# Altium footprint library SMD-RCD 0607.PcbLib: 104 footprints (part 7 of 7)
Each footprint in its own frame and in the unit in brackets; x right, y up, seen from the top. Pads: shape width x height; smd on the part's side, far side on the other; paste and mask are expansions set on the pad; w line width, h text height; cw(c..) or ccw(c..) is an arc to the next point about the centre after c.
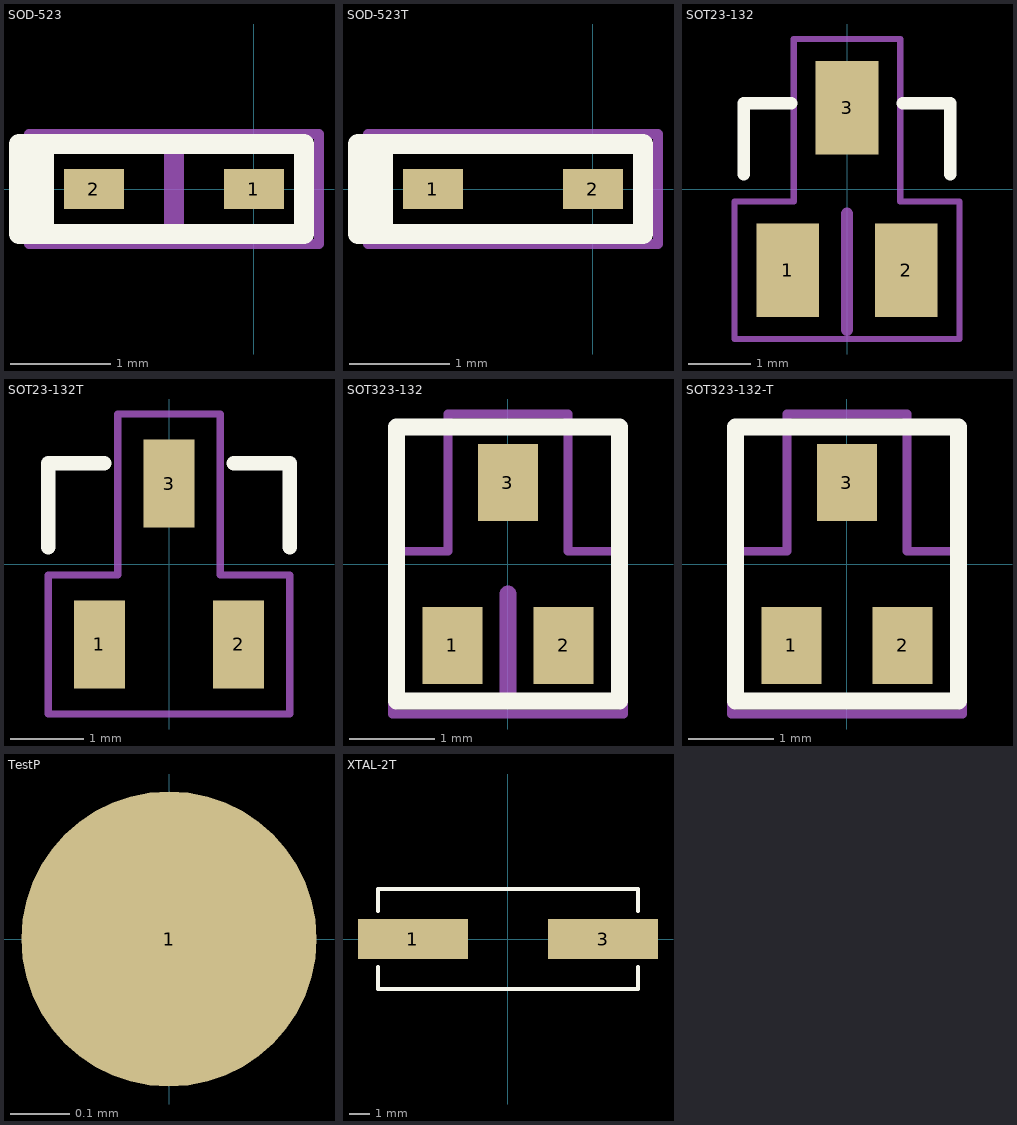
[diagram p6: the footprints below, top view; thin cyan lines are the x and y axes]

## SOD-523 [mm] "SC79"
height 0.7
pads (2):
  rect 0.6x0.4 smd: 1(0,0) 2(-1.6,0)
Top Overlay:
  lines w0.2: -2.225,-0.45 -2.225,0.45 ; -2.1,-0.45 -2.1,0.45 ; -2.35,-0.45 -2.35,0.45 0.5,0.45 0.5,-0.45 -2.35,-0.45
Mechanical 9:
  lines w0.2: -0.8,-0.45 -0.8,0.45
Mechanical 16:
  lines w0.1: -2.25,-0.55 -2.25,0.55 0.65,0.55 0.65,-0.55 -2.25,-0.55

## SOD-523T [mm] "SC79"
height 0.7
pads (2):
  rect 0.6x0.4 smd: 1(-1.6,0) 2(0,0)
Top Overlay:
  lines w0.2: -2.225,-0.45 -2.225,0.45 ; -2.1,-0.45 -2.1,0.45 ; -2.35,-0.45 -2.35,0.45 0.5,0.45 0.5,-0.45 -2.35,-0.45
Mechanical 15:
  lines w0.1: -2.25,-0.55 -2.25,0.55 0.65,0.55 0.65,-0.55 -2.25,-0.55

## SOT23-132 [mm] "SC-59"
height 1.11
pads (3):
  rect 1x1.5 smd: 1(-0.95,-1.3) 2(0.95,-1.3) 3(0,1.3)
Top Overlay:
  lines w0.2: -1.65,0.232 -1.65,1.375 -0.889,1.375 ; 0.889,1.375 1.65,1.375 1.65,0.232
Mechanical 9:
  lines w0.2: 0,-2.25 0,-0.4
Mechanical 16:
  lines w0.1: -1.8,-2.4 -1.8,-0.2 -0.85,-0.2 -0.85,2.4 0.85,2.4 0.85,-0.2 1.8,-0.2 1.8,-2.4 -1.8,-2.4

## SOT23-132T [mm]
height 1.11
pads (3):
  rect 0.7x1.2 smd: 1(-0.95,-1.1) 2(0.95,-1.1) 3(0,1.1)
Top Overlay:
  lines w0.2: -1.65,0.232 -1.65,1.375 -0.889,1.375 ; 0.889,1.375 1.65,1.375 1.65,0.232
Mechanical 15:
  lines w0.1: -1.65,-2.05 -1.65,-0.15 -0.7,-0.15 -0.7,2.05 0.7,2.05 0.7,-0.15 1.65,-0.15 1.65,-2.05 -1.65,-2.05

## SOT323-132 [mm] "SC-70"
height 1
pads (3):
  rect 0.7x0.9 smd: 1(-0.65,-0.95) 2(0.65,-0.95) 3(0,0.95)
Top Overlay:
  lines w0.2: -1.3,-1.6 1.3,-1.6 1.3,1.6 -1.3,1.6 -1.3,-1.6
Mechanical 9:
  lines w0.2: 0,-1.55 0,-0.35
Mechanical 15:
  lines w0.1: -1.35,-1.75 -1.35,0.15 -0.7,0.15 -0.7,1.75 0.7,1.75 0.7,0.15 1.35,0.15 1.35,-1.75 -1.35,-1.75
Mechanical 16:
  lines w0.1: -1.35,-1.75 -1.35,0.15 -0.7,0.15 -0.7,1.75 0.7,1.75 0.7,0.15 1.35,0.15 1.35,-1.75 -1.35,-1.75

## SOT323-132-T [mm] "SC-70"
height 1
pads (3):
  rect 0.7x0.9 smd: 1(-0.65,-0.95) 2(0.65,-0.95) 3(0,0.95)
Top Overlay:
  lines w0.2: -1.3,-1.6 -1.3,1.6 1.3,1.6 1.3,-1.6 -1.3,-1.6
Mechanical 15:
  lines w0.1: -1.35,-1.75 1.35,-1.75 1.35,0.15 0.7,0.15 0.7,1.75 -0.7,1.75 -0.7,0.15 -1.35,0.15 -1.35,-1.75
Mechanical 16:
  lines w0.1: -1.35,-1.75 1.35,-1.75 1.35,0.15 0.7,0.15 0.7,1.75 -0.7,1.75 -0.7,0.15 -1.35,0.15 -1.35,-1.75

## TestP [mm]
pads (1):
  round 0.5 smd: 1(0,0)

## XTAL-2T [mm]
pads (2):
  rect 5.5x2 smd: 1(-4.75,0) 3(4.75,0)
Top Overlay:
  lines w0.2: -6.5,-1.4 -6.5,-2.5 6.5,-2.5 6.5,-1.4 ; -6.5,1.4 -6.5,2.5 6.5,2.5 6.5,1.4